# Altium footprint library XT60.PcbLib: 2 footprints
Each footprint in its own frame and in the unit in brackets; x right, y up, seen from the top. Pads: shape width x height; smd on the part's side, far side on the other; paste and mask are expansions set on the pad; w line width, h text height; cw(c..) or ccw(c..) is an arc to the next point about the centre after c.
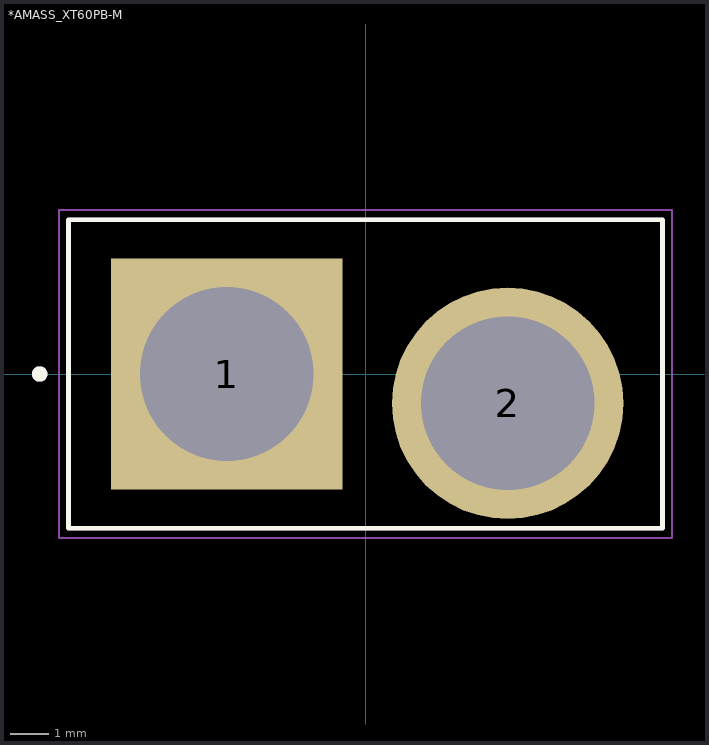
[diagram p0: the footprints below, top view; thin cyan lines are the x and y axes]

## *AMASS_XT60PB-M [mm]
pads (2):
  rect 6x6 hole 4.5: 1(-3.6,0)
  round 6 hole 4.5: 2(3.683,-0.762)
Top Overlay:
  circle w0.2: c-2.54,-2.222 r0.1
  circle w0.2: c-8.45,0 r0.1
  lines w0.127: -7.7,-4 7.7,-4 7.7,4 -7.7,4 -7.7,-4
Mechanical 4:
  circle w0.2: c-2.54,-2.222 r0.1
  circle w0.2: c-8.45,0 r0.1
  circle w0.2: c-2.54,-2.222 r0.1
  circle w0.2: c-8.45,0 r0.1
  lines w0.127: -7.7,-4 7.7,-4 ; -7.7,-4 -7.7,4 ; -7.7,-4 7.7,-4 ; -7.7,-4 -7.7,4 ; -7.7,4 7.7,4 ; -7.7,4 7.7,4 ; 7.7,-4 7.7,4 ; 7.7,-4 7.7,4
Mechanical 16:
  lines w0.05: -7.95,-4.25 7.95,-4.25 7.95,4.25 -7.95,4.25 -7.95,-4.25
3D body: height 0.25, standoff 0, extent -3.81,1.016 -3.81,1.016
3D body: height 0.25, standoff 0, extent -5.969,4.064 -5.969,4.064
3D body "XT60 --3DModel-STEP-56544.STEP": height 16, standoff -4.5, extent -8.004,-4.318 7.496,3.782

## PCBComponent_1 [mm]